# Altium schematic symbol library Connectors_Lib.SchLib: 3 symbols
Pins are listed as number, name and electrical type; pins without a type are passive.

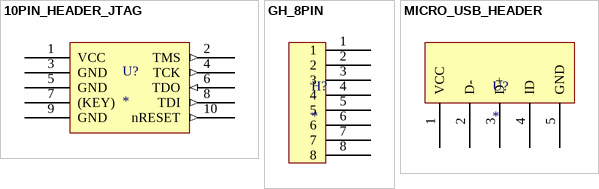
[diagram p0: symbols 10PIN_HEADER_JTAG to MICRO_USB_HEADER]

## 10PIN_HEADER_JTAG
designator U?
ComponentLink1Description: Datasheet; ComponentLink1URL: http://ww1.microchip.com/downloads/en/DeviceDoc/Atmel-ICE_UserGuide.pdf
footprint 1.27 mm 10 pin
pins: 1 VCC (power), 2 TMS (out), 3 GND (power), 4 TCK (out), 5 GND (power), 6 TDO (in), 7 (KEY), 8 TDI (out), 9 GND (power), 10 nRESET (out)

## GH_8PIN
designator H?
footprint GH_CON_8PIN
pins: 1, 2, 3, 4, 5, 6, 7, 8

## MICRO_USB_HEADER
designator U?
ComponentLink1Description: Supplier; ComponentLink1URL: https://no.farnell.com/molex/105017-0001/micro-usb-2-0-type-b-receptacle/dp/2293836?st=Micro%20USB; ComponentLink2Description: Footprint; ComponentLink2URL: https://www.molex.com/pdm_docs/sd/1050170001_sd.pdf
footprint MICRO_USB_BOTTOM_MOUNT
pins: 1 VCC, 2 D-, 3 D+, 4 ID, 5 GND